# EAGLE library part 750311798 (library Wurth Electronics Midcom Inc V1-0)
Package Style: Speedy EE16/8/5(EF16) 10W THT Mounting: THT Pins: 10 pins Bobbin: 070-5280 Windings Primary: Aux: Secondary: Best pinouts for production vary per application. Please contact Wurth Electronics Midcom, Inc. for assistance with your custom design. Datasheet: 750311798 <http://www.we-online.com/web/en/index.php/show/media/passive_components_-_custom_magnetics/pdf_doc_files/spec_sheets/7503/750311798.pdf> Website: Wurth Electronics Midcom <http://www.we-online.com/midcom> Contact us Wurth Electronics Midcom, Inc. 121 Airport Dr. Watertown, SD 57201 Phone: (605) 886-4385 Fax: (605) 886-4486 E-Mail: midcom@we-online.com
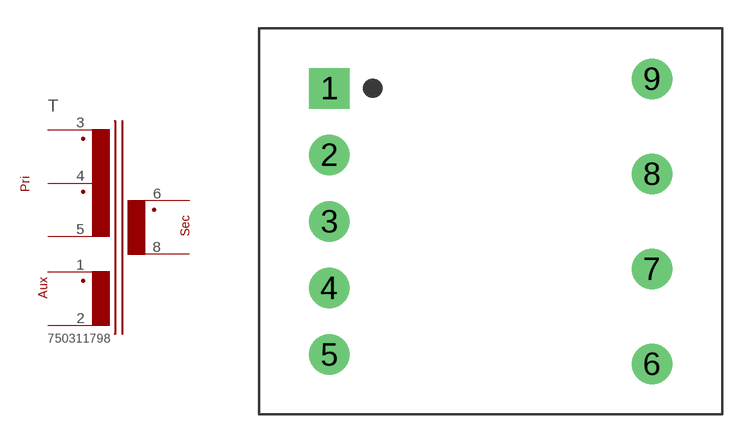
[diagram p66: symbol with the pads of 00SPEEDY_EE16/8/5_THT_H_9PIN; footprint 00SPEEDY_EE16/8/5_THT_H_9PIN]

Designator prefix T

## 750311798  [00SPEEDY_EE16/8/5_THT_H_9PIN]
1  4  pas
2  5  pas
3  1  pas
4  2  pas
5  3  pas
6  7  pas
8  8  pas

## Footprint 00SPEEDY_EE16/8/5_THT_H_9PIN (pad centres in mm)
Package Style: Speedy EE16/8/5 Mounting: THT Pins: 9 pins Bobbin: 070-5280
drill 1.422 square: 1 -8.496,7.01
drill 1.422 round: 2 -8.496,3.505; 3 -8.496,0; 4 -8.496,-3.505; 5 -8.496,-7.01; 6 8.496,-7.506; 7 8.496,-2.502; 8 8.496,2.502; 9 8.496,7.506